# Altium footprint library LNA_BFU550.PcbLib: 8 footprints
Each footprint in its own frame and in the unit in brackets; x right, y up, seen from the top. Pads: shape width x height; smd on the part's side, far side on the other; paste and mask are expansions set on the pad; w line width, h text height; cw(c..) or ccw(c..) is an arc to the next point about the centre after c.
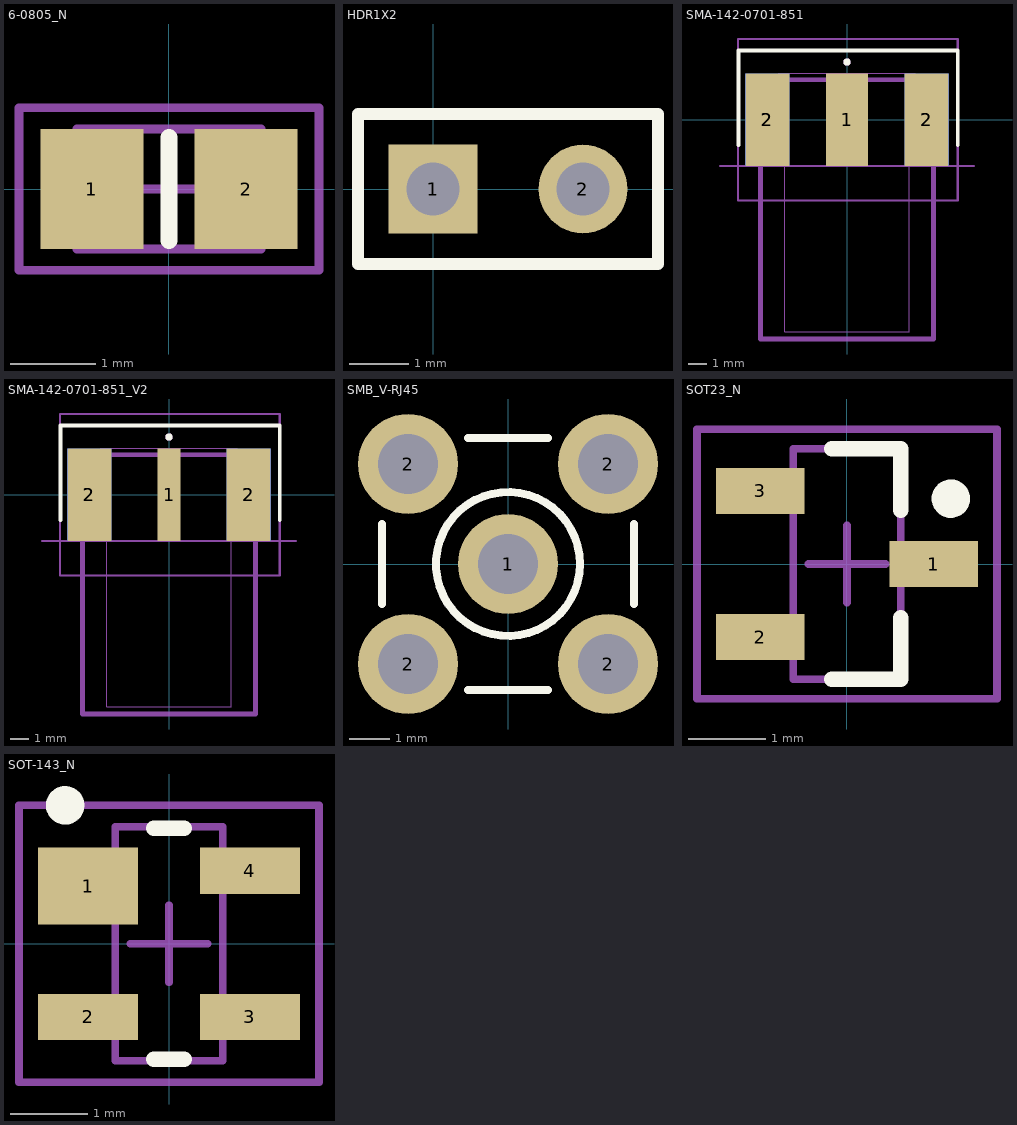
[diagram p0: the footprints below, top view; thin cyan lines are the x and y axes]

## 6-0805_N [mm]
pads (2):
  rect 1.2x1.4 smd: 1(-0.9,0) 2(0.9,0)
Top Overlay:
  lines w0.2: 0,-0.6 0,0.6
Mechanical 13:
  lines w0.1: -1.075,-0.7 -1.075,0.7 1.075,0.7 1.075,-0.7 -1.075,-0.7
Mechanical 15:
  lines w0.1: -0.5,0 0.5,0 ; 0,-0.5 0,0.5 ; -1.75,-0.95 -1.75,0.95 1.75,0.95 1.75,-0.95 -1.75,-0.95
3D body: height 0.7, standoff 0, extent -1.075,-0.7 1.075,0.7

## HDR1X2 [mm]
pads (2):
  rect 1.5x1.5 hole 0.9: 1(0,0)
  round 1.5 hole 0.9: 2(2.54,0)
Top Overlay:
  lines w0.2: -1.27,-1.27 3.81,-1.27 3.81,1.27 -1.27,1.27 -1.27,-1.27

## PCBComponent_1 [mm]

## SMA-142-0701-851 [mil] "SMA 50 Ohm, End Launch Jack Receptacle, Tab Contact"
height 312
pads (5):
  rect 90x200 smd: 1(0,0)
  rect 95x200 smd: 2(-172.5,0) 2(172.5,0)
  rect 95x200 smd far side: 2(-172.5,0) 2(172.5,0)
Top Overlay:
  circle w7.87: c0,125 r3.94
  lines w7.87: -235,-55 -235,150 240,150 240,-55
Mechanical 13:
  lines w4: -275,-100 275,-100
  lines w10: -187.5,-474.99 -187.5,87 187.5,87 187.5,-474.99 -187.5,-474.99
  text "PCB EDGE" at 260,-90 h24
Mechanical 15:
  lines w1.97: -147.64,-84.65 -147.64,100.39 147.64,100.39 147.64,-84.65 134.45,-84.65 134.45,-459.45 -134.45,-459.45 -134.45,-84.65 -147.64,-84.65
Mechanical 29:
  circle w7.87: c0,125 r3.94
  lines w5: -236.22,-175 -236.22,175 240.16,175 240.16,-175 -236.22,-175
  text ".Designator" at -95,-5 h19.68
3D body "142-0701-851.stp": height 161, standoff -151, extent -187.5,-474.99 187.5,87

## SMA-142-0701-851_V2 [mil] "SMA 50 Ohm, End Launch Jack Receptacle, Tab Contact"
height 312
pads (5):
  rect 50x200 smd: 1(0,0)
  rect 95x200 smd: 2(-172.5,0) 2(172.5,0)
  rect 95x200 smd far side: 2(-172.5,0) 2(172.5,0)
Top Overlay:
  circle w7.87: c0,125 r3.94
  lines w7.87: -235,-55 -235,150 240,150 240,-55
Mechanical 13:
  lines w4: -275,-100 275,-100
  lines w10: -187.5,-474.99 -187.5,87 187.5,87 187.5,-474.99 -187.5,-474.99
  text "PCB EDGE" at 260,-90 h24
Mechanical 15:
  lines w1.97: -147.64,-84.65 -147.64,100.39 147.64,100.39 147.64,-84.65 134.45,-84.65 134.45,-459.45 -134.45,-459.45 -134.45,-84.65 -147.64,-84.65
Mechanical 29:
  circle w7.87: c0,125 r3.94
  lines w5: -236.22,-175 -236.22,175 240.16,175 240.16,-175 -236.22,-175
  text ".Designator" at -95,-5 h19.68
3D body "142-0701-851.stp": height 161, standoff -151, extent -187.5,-474.99 187.5,87

## SMB_V-RJ45 [mm]
pads (5):
  round 2.5 hole 1.5: 1(0,0) 2(-2.5,-2.5) 2(-2.5,2.5) 2(2.5,-2.5) 2(2.5,2.5)
Top Overlay:
  circle w0.2: c0,0 r1.8
  lines w0.2: -3.15,-1 -3.15,1 ; -1,-3.15 1,-3.15 ; -1,3.15 1,3.15 ; 3.15,-1 3.15,1
Mechanical 1:
  circle w0.025: c0,0 r1.8
  circle w0.025: c0,0 r1.05
  circle w0.025: c0,0 r0.2

## SOT23_N [mm]
pads (3):
  rect 1.15x0.6 smd: 1(1.125,0) 2(-1.125,-0.95) 3(-1.125,0.95)
Top Overlay:
  circle w0.25: c1.35,0.85 r0.125
  lines w0.2: -0.2,-1.5 0.7,-1.5 0.7,-0.7 ; -0.2,1.5 0.7,1.5 0.7,0.7
Mechanical 13:
  lines w0.1: -0.7,-1.5 0.7,-1.5 0.7,1.5 -0.7,1.5 -0.7,-1.5
Mechanical 15:
  lines w0.1: -0.5,0 0.5,0 ; 0,-0.5 0,0.5 ; -1.95,-1.75 1.95,-1.75 1.95,1.75 -1.95,1.75 -1.95,-1.75
3D body: height 1.1, standoff 0, extent -0.7,-1.5 0.7,1.5

## SOT-143_N [mm] "SOT143, 4-Leads, Body 2.9x1.3mm, Pitch 1.9mm, Lead Span 2.5mm, IPC Medium Density"
height 1.1
pads (4):
  rect 1.3x1 smd: 1(-1.05,0.75)
  rect 1.3x0.6 smd: 2(-1.05,-0.95) 3(1.05,-0.95) 4(1.05,0.95)
Top Overlay:
  circle w0.25: c-1.35,1.8 r0.125
  lines w0.2: -0.2,-1.5 0.2,-1.5 ; -0.2,1.5 0.2,1.5
Mechanical 13:
  lines w0.1: -0.7,-1.52 0.7,-1.52 0.7,1.52 -0.7,1.52 -0.7,-1.52
Mechanical 15:
  lines w0.1: -0.5,0 0.5,0 ; 0,-0.5 0,0.5 ; -1.95,-1.8 1.95,-1.8 1.95,1.8 -1.95,1.8 -1.95,-1.8
3D body: height 1.1, standoff 0, extent -0.7,-1.52 0.7,1.52